# EAGLE library part PRO-MINI (library sibosop)
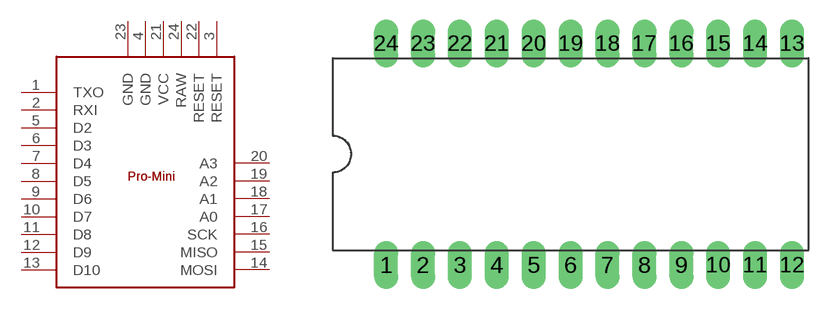
[diagram p12: symbol with the pads of DIL24-6-EXT; footprint DIL24-6-EXT]

Designator prefix IC

## PRO-MINI  [DIL24-6-EXT]
1  TXO  out
2  RXI  in
3  RESET  in
4  GND  pwr
5  D2
6  D3
7  D4
8  D5
9  D6
10  D7
11  D8
12  D9
13  D10
14  MOSI
15  MISO
16  SCK
17  A0
18  A1
19  A2
20  A3
21  VCC  pwr
22  RESET
23  GND
24  RAW  pwr

## Footprint DIL24-6-EXT (pad centres in mm)
DIL 24-6 with extension for online connector
drill 1.1 long: 1 -12.7,-7.62; 2 -10.16,-7.62; 3 -7.62,-7.62; 4 -5.08,-7.62; 5 -2.54,-7.62; 6 0,-7.62; 7 2.54,-7.62; 8 5.08,-7.62; 9 7.62,-7.62; 10 10.16,-7.62; 11 12.7,-7.62; 12 15.24,-7.62; 13 15.24,7.62; 14 12.7,7.62; 15 10.16,7.62; 16 7.62,7.62; 17 5.08,7.62; 18 2.54,7.62; 19 0,7.62; 20 -2.54,7.62; 21 -5.08,7.62; 22 -7.62,7.62; 23 -10.16,7.62; 24 -12.7,7.62